# Altium integrated library PIC16F18325.IntLib: 2 symbols
Pins are listed as number, name and electrical type; pins without a type are passive.

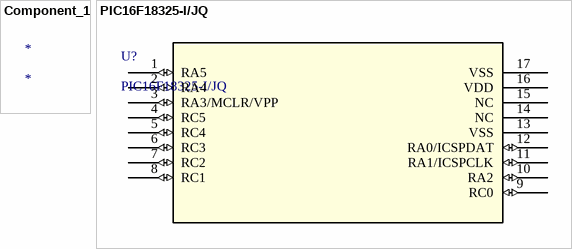
[diagram p0: symbols Component_1 to PIC16F18325-I/JQ]

## Component_1
designator *

## PIC16F18325-I/JQ
designator U?
No Description Available; Vendor: Microchip; Built_By: EMA_Cory; SourceLibrary: Add_to_database_2020-10-27; Datasheet: https://ww1.microchip.com/downloads/en/DeviceDoc/PIC16-L-F18325-18345-Data-Sheet-40001795H.pdf; Manufacturer_Part_Number: PIC16F18325-I/JQ; Copyright: Copyright (C) 2018 Accelerated Designs. All rights reserved; RefDes: RefDes; Type: DEV
footprint UQFN16_JQ_MCH
pins: 1 RA5 (io), 2 RA4 (io), 3 RA3/MCLR/VPP (io), 4 RC5 (io), 5 RC4 (io), 6 RC3 (io), 7 RC2 (io), 8 RC1 (io), 9 RC0 (io), 10 RA2 (io), 11 RA1/ICSPCLK (io), 12 RA0/ICSPDAT (io), 13 VSS, 14 NC, 15 NC, 16 VDD (power), 17 VSS